# Altium footprint library AOP.PcbLib: 1 footprints
Each footprint in its own frame and in the unit in brackets; x right, y up, seen from the top. Pads: shape width x height; smd on the part's side, far side on the other; paste and mask are expansions set on the pad; w line width, h text height; cw(c..) or ccw(c..) is an arc to the next point about the centre after c.
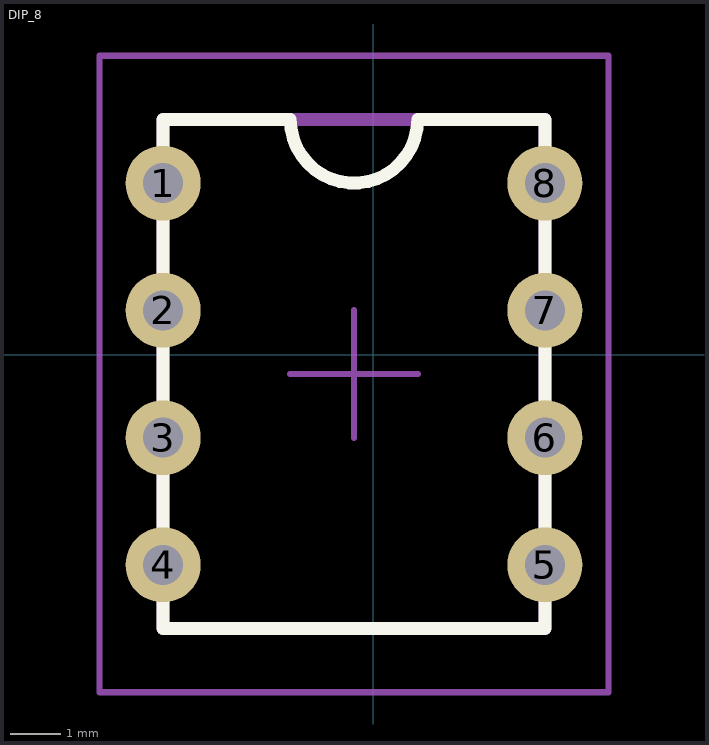
[diagram p0: the footprint, top view; thin cyan lines are the x and y axes]

## DIP_8 [mm]
pads (8):
  round 1.5 hole 0.8: 1(-4.191,3.429) 2(-4.191,0.889) 3(-4.191,-1.651) 4(-4.191,-4.191) 5(3.429,-4.191) 6(3.429,-1.651) 7(3.429,0.889) 8(3.429,3.429)
Top Overlay:
  lines w0.254: -4.191,-5.461 3.429,-5.461 3.429,4.699 0.889,4.699 cw(c-0.381,4.699) -1.651,4.699 -4.191,4.699 -4.191,-5.461
Mechanical 13:
  lines w0.254: -4.191,-5.461 -4.191,4.699 3.429,4.699 3.429,-5.461 -4.191,-5.461
Mechanical 15:
  lines w0.127: -1.651,-0.381 0.889,-0.381 ; -0.381,-1.651 -0.381,0.889 ; -5.461,-6.731 -5.461,5.969 4.699,5.969 4.699,-6.731 -5.461,-6.731
Mechanical 17:
  text ".Designator" at 0.889,-5.461 h2
3D body: height 3.81, standoff 0.5, extent -4.191,-5.461 3.429,4.699